# EAGLE library part ELSCOM-LORA-BOARD-TEST-POINT (library angrypig7-Boards)
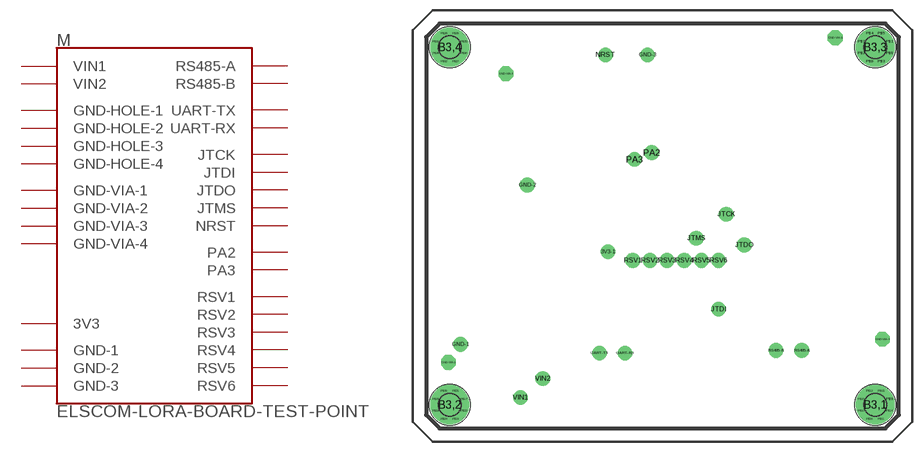
[diagram p12: symbol with the pads of ELSCOM-LORA-BOARD-TEST-POINT; footprint ELSCOM-LORA-BOARD-TEST-POINT]

Designator prefix M

## ELSCOM-LORA-BOARD-TEST-POINT  [ELSCOM-LORA-BOARD-TEST-POINT]
3V3-1  3V3
B3,1  GND-HOLE-1
B3,2  GND-HOLE-2
B3,3  GND-HOLE-3
B3,4  GND-HOLE-4
GND-1  GND-1
GND-2  GND-2
GND-3  GND-3
GND-VIA-1  GND-VIA-1
GND-VIA-2  GND-VIA-2
GND-VIA-3  GND-VIA-3
GND-VIA-4  GND-VIA-4
JTCK  JTCK
JTDI  JTDI
JTDO  JTDO
JTMS  JTMS
NRST  NRST
P$1  GND-HOLE-1
P$2  GND-HOLE-1
P$3  GND-HOLE-1
P$4  GND-HOLE-1
P$5  GND-HOLE-1
P$6  GND-HOLE-1
P$7  GND-HOLE-1
P$8  GND-HOLE-1
P$9  GND-HOLE-2
P$10  GND-HOLE-2
P$11  GND-HOLE-2
P$12  GND-HOLE-2
P$13  GND-HOLE-2
P$14  GND-HOLE-2
P$15  GND-HOLE-2
P$16  GND-HOLE-2
P$17  GND-HOLE-3
P$18  GND-HOLE-3
P$19  GND-HOLE-3
P$20  GND-HOLE-3
P$21  GND-HOLE-3
P$22  GND-HOLE-3
P$23  GND-HOLE-3
P$24  GND-HOLE-3
P$25  GND-HOLE-4
P$26  GND-HOLE-4
P$27  GND-HOLE-4
P$28  GND-HOLE-4
P$29  GND-HOLE-4
P$30  GND-HOLE-4
P$31  GND-HOLE-4
P$32  GND-HOLE-4
PA2  PA2
PA3  PA3
RS485-A  RS485-A
RS485-B  RS485-B
RSV1  RSV1
RSV2  RSV2
RSV3  RSV3
RSV4  RSV4
RSV5  RSV5
RSV6  RSV6
UART-RX  UART-RX
UART-TX  UART-TX
VIN1  VIN1
VIN2  VIN2

## Footprint ELSCOM-LORA-BOARD-TEST-POINT (pad centres in mm)
drill 1.45: 3V3-1 -8.076,-3.838; GND-1 -29.92,-17.554; GND-2 -20.014,6.068; GND-3 -2.234,25.372; JTCK 9.45,1.75; JTDI 8.307,-12.347; JTDO 12.117,-2.822; JTMS 5.005,-1.806; NRST -8.457,25.372; PA2 -1.599,10.894; PA3 -4.139,9.878; RS485-A 20.626,-18.443; RS485-B 16.816,-18.443; RSV1 -4.393,-5.108; RSV2 -1.853,-5.108; RSV3 0.687,-5.108; RSV4 3.227,-5.108; RSV5 5.767,-5.108; RSV6 8.307,-5.108; UART-RX -5.536,-18.824; UART-TX -9.346,-18.824; VIN1 -21.03,-25.428; VIN2 -17.728,-22.634
drill 3.3 pad 5.842: B3,1 31.5,-26.5; B3,2 -31.5,-26.5; B3,3 31.5,26.5; B3,4 -31.5,26.5
drill 1.45 octagon: GND-VIA-1 -31.698,-20.221; GND-VIA-2 -23.189,22.578; GND-VIA-3 25.579,27.912; GND-VIA-4 32.564,-16.792
drill 0.4: P$1 33.579,27.361; P$2 29.421,25.639; P$3 32.361,24.421; P$4 30.639,28.579; P$5 32.361,28.579; P$6 33.579,25.639; P$7 29.421,27.361; P$8 30.639,24.421; P$9 33.579,-25.639; P$10 29.421,-27.361; P$11 32.361,-28.579; P$12 30.639,-24.421; P$13 32.361,-24.421; P$14 33.579,-27.361; P$15 29.421,-25.639; P$16 30.639,-28.579; P$17 -29.421,-25.639; P$18 -33.579,-27.361; P$19 -30.639,-28.579; P$20 -32.361,-24.421; P$21 -30.639,-24.421; P$22 -29.421,-27.361; P$23 -33.579,-25.639; P$24 -32.361,-28.579; P$25 -29.421,27.361; P$26 -33.579,25.639; P$27 -30.639,24.421; P$28 -32.361,28.579; P$29 -30.639,28.579; P$30 -29.421,25.639; P$31 -33.579,27.361; P$32 -32.361,24.421